# Altium schematic symbol library Resistors (2).SchLib: 59 symbols (part 2 of 2)
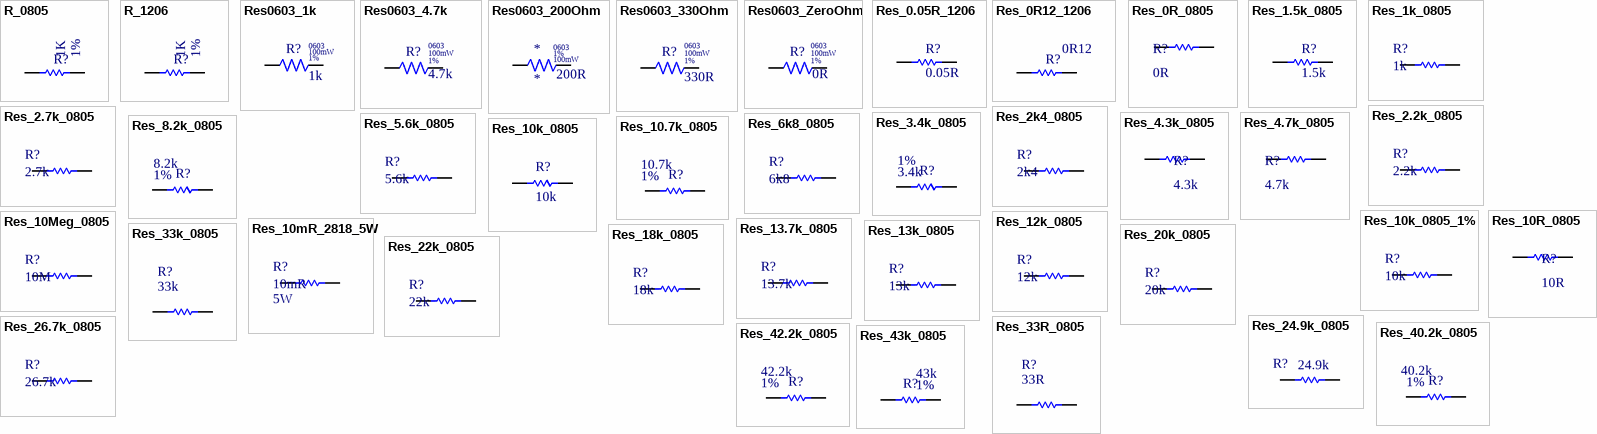
[diagram p2: symbols R_0805 to Res_43k_0805]

## Res_42.2k_0805
designator R?  Tolerance: 1%  Resistance: 42.2k  (hidden comment: *)
RES SMD 42.2K OHM 1% 1/8W 0805; Manufacturer: Vishay; Manufacturer Part Number: CRCW080542K2FKEA; Temperature Coefficient: 100ppm/°C; Max Power Dissipation: 125mW; Voltage Rating: 150V; Supplier 1: Digi-Key; RoHS: Yes; Category: Chip SMD Resistors; Stock 1: 19885; Pricing 1: 1=0.10000, 10=0.06200, 100=0.02540, 1000=0.01142, 2500=0.00991 (USD); Mount: Surface Mount; Case/Package: 0805; Number of Pins: 2; Weight: 0.000194oz; Case Code (Metric): 2012; Case Code (Imperial): 0805; Contact Plating: Tin; Min Operating Temperature: -55°C; Max Operating Temperature: 155°C; Packaging: Tape and Reel; Composition: Thick Film; Number of Terminations: 2; Package Quantity: 10; Power Rating: 125mW; Voltage Rating (DC): 150V; Features: Automotive AEC-Q200; Termination: SMD/SMT; Military Standard: Not; Length: 2mm; Height: 0.02inch; Width: 0.049inch; Depth: 1.25mm; Lead Free: Lead Free; REACH SVHC: Unknown; ComponentLink1URL: https://datasheet.ciiva.com/22674/1825492-22674789.pdf?src-supplier=Element14; ComponentLink1Description: https://datasheet.ciiva.com/22674/1825492-22674789.pdf?src-supplier=Element14; ComponentLink2URL: https://datasheet.ciiva.com/2467/dcrcwe3-2467878.pdf?src-supplier=Digi-Key; ComponentLink2Description: https://datasheet.ciiva.com/2467/dcrcwe3-2467878.pdf?src-supplier=Digi-Key; ComponentLink3URL: https://datasheet.ciiva.com/7671/1697337-7671702.pdf?src-supplier=Element14; ComponentLink3Description: https://datasheet.ciiva.com/7671/1697337-7671702.pdf?src-supplier=Element14; ComponentLink4URL: https://datasheet.ciiva.com/22869/70201119-22869110.pdf?src-supplier=Allied+Electronics; ComponentLink4Description: https://datasheet.ciiva.com/22869/70201119-22869110.pdf?src-supplier=Allied+Electronics; ComponentLink5URL: https://datasheet.ciiva.com/2467/dcrcwe3-2467879.pdf?src-supplier=Digi-Key; ComponentLink5Description: https://datasheet.ciiva.com/2467/dcrcwe3-2467879.pdf?src-supplier=Digi-Key; ComponentLink6URL: https://datasheet.ciiva.com/16213/dcrcwe3-16213911.pdf?src-supplier=Future+Electronics; ComponentLink6Description: https://datasheet.ciiva.com/16213/dcrcwe3-16213911.pdf?src-supplier=Future+Electronics; ComponentLink7URL: https://datasheet.ciiva.com/2467/dcrcwe3-2467880.pdf?src-supplier=Digi-Key; ComponentLink7Description: https://datasheet.ciiva.com/2467/dcrcwe3-2467880.pdf?src-supplier=Digi-Key; ComponentLink8URL: https://datasheet.ciiva.com/16779/70201119-16779240.pdf?src-supplier=Allied+Electronics; ComponentLink8Description: https://datasheet.ciiva.com/16779/70201119-16779240.pdf?src-supplier=Allied+Electronics; ComponentLink9URL: https://datasheet.ciiva.com/9008/dcrcwe3-9008971.pdf?src-supplier=Avnet; ComponentLink9Description: https://datasheet.ciiva.com/9008/dcrcwe3-9008971.pdf?src-supplier=Avnet; ComponentLink10URL: https://datasheet.ciiva.com/5562/dcrcwe3-109170-5562445.pdf?src-supplier=Mouser; ComponentLink10Description: https://datasheet.ciiva.com/5562/dcrcwe3-109170-5562445.pdf?src-supplier=Mouser; Supplier Part Number 1: 541-42.2KCCT-ND
footprint Resistor_0805
pins: 1, 2

## Res_43k_0805
designator R?  Resistance: 43k  Tolerance: 1%  (hidden comment: *)
RES SMD 43K OHM 1% 1/8W 0805; Manufacturer: Vishay; Manufacturer Part Number: CRCW080543K0FKEA; Temperature Coefficient: 100ppm/°C; Power Rating: 125mW; Voltage Rating: 150V; Supplier 1: Digi-Key; RoHS: Yes; Category: Chip SMD Resistors; Stock 1: 3200; Pricing 1: 1=0.10000, 10=0.06200, 100=0.02540, 1000=0.01142, 2500=0.00991 (USD); Case/Package: 0805; Number of Pins: 2; Weight: 0.000194oz; Case Code (Metric): 2012; Case Code (Imperial): 0805; Contact Plating: Tin; Min Operating Temperature: -55°C; Max Operating Temperature: 155°C; Packaging: Tape and Reel; Composition: Thick Film; Package Quantity: 10; Number of Terminations: 2; Max Power Dissipation: 125mW; Voltage Rating (DC): 150V; Termination: SMD/SMT; Features: Automotive AEC-Q200; Military Standard: Not; Length: 2mm; Height: 0.45mm; Width: 0.049inch; Depth: 1.25mm; Radiation Hardening: No; Lead Free: Lead Free; REACH SVHC: Unknown; ComponentLink1URL: https://datasheet.ciiva.com/11809/0900766b80d98b26-11809705.pdf?src-supplier=RSComponents; ComponentLink1Description: https://datasheet.ciiva.com/11809/0900766b80d98b26-11809705.pdf?src-supplier=RSComponents; ComponentLink2URL: https://datasheet.ciiva.com/7671/1697337-7671703.pdf?src-supplier=Element14; ComponentLink2Description: https://datasheet.ciiva.com/7671/1697337-7671703.pdf?src-supplier=Element14; ComponentLink3URL: https://datasheet.ciiva.com/5541/dcrcwe3-109170-5541576.pdf?src-supplier=Mouser; ComponentLink3Description: https://datasheet.ciiva.com/5541/dcrcwe3-109170-5541576.pdf?src-supplier=Mouser; ComponentLink4URL: https://datasheet.ciiva.com/16494/dcrcwe3-16494488.pdf?src-supplier=Future+Electronics; ComponentLink4Description: https://datasheet.ciiva.com/16494/dcrcwe3-16494488.pdf?src-supplier=Future+Electronics; ComponentLink5URL: https://datasheet.ciiva.com/22705/1697337-22705879.pdf?src-supplier=Element14; ComponentLink5Description: https://datasheet.ciiva.com/22705/1697337-22705879.pdf?src-supplier=Element14; ComponentLink6URL: https://datasheet.ciiva.com/2495/dcrcwe3-2495856.pdf?src-supplier=Digi-Key; ComponentLink6Description: https://datasheet.ciiva.com/2495/dcrcwe3-2495856.pdf?src-supplier=Digi-Key; ComponentLink7URL: https://datasheet.ciiva.com/9008/dcrcwe3-9008901.pdf?src-supplier=Avnet; ComponentLink7Description: https://datasheet.ciiva.com/9008/dcrcwe3-9008901.pdf?src-supplier=Avnet; ComponentLink8URL: https://datasheet.ciiva.com/17179/dcrcwe3-17179111.pdf?src-supplier=Avnet+Europe; ComponentLink8Description: https://datasheet.ciiva.com/17179/dcrcwe3-17179111.pdf?src-supplier=Avnet+Europe; ComponentLink9URL: https://datasheet.ciiva.com/26314/fld-crcw-e3-data-en-26314583.pdf?src-supplier=Distrelec; ComponentLink9Description: https://datasheet.ciiva.com/26314/fld-crcw-e3-data-en-26314583.pdf?src-supplier=Distrelec; ComponentLink10URL: https://datasheet.ciiva.com/7671/1697337-7671704.pdf?src-supplier=Element14; ComponentLink10Description: https://datasheet.ciiva.com/7671/1697337-7671704.pdf?src-supplier=Element14; ComponentLink11URL: https://datasheet.ciiva.com/2495/dcrcwe3-2495854.pdf?src-supplier=Digi-Key; ComponentLink11Description: https://datasheet.ciiva.com/2495/dcrcwe3-2495854.pdf?src-supplier=Digi-Key; ComponentLink12URL: https://datasheet.ciiva.com/2495/dcrcwe3-2495855.pdf?src-supplier=Digi-Key; ComponentLink12Description: https://datasheet.ciiva.com/2495/dcrcwe3-2495855.pdf?src-supplier=Digi-Key; Supplier Part Number 1: 541-43.0KCCT-ND
footprint Resistor_0805
pins: 1, 2

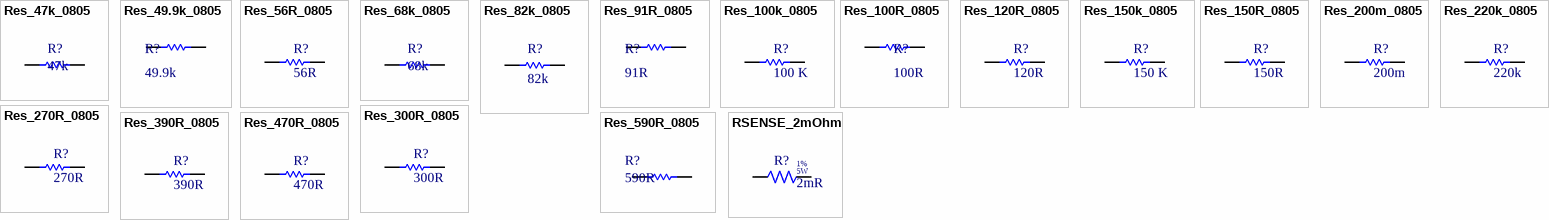
[diagram p1: symbols Res_47k_0805 to RSENSE_2mOhm]

## Res_47k_0805
designator R?, comment 47k
RES SMD 0805 47k 1/8W; Value: LTR10EZPJ473; Supplier 1: Digi-Key; Supplier Part Number 1: 311-47KARCT-ND
footprint Resistor_0805
pins: 1, 2

## Res_49.9k_0805
designator R?, comment 49.9k
RES SMD 0805 49k9 1/4W; Tolerance: 1%; Value: RNCP0805FTD49K9; Supplier 1: Digi-Key; Supplier Part Number 1: RNCP0805FTD49K9CT-ND
footprint Resistor_0805
pins: 1, 2

## Res_56R_0805
designator R?, comment 56R
RES SMD 0805 56R 1/8W; Value: RC0805FR-0756RL; Datasheet: https://www.seielect.com/Catalog/SEI-RMCF_RMCP.pdf; Supplier 1: Digi-Key; Supplier Part Number 1: 311-56.0CRCT-ND; Supplier 2: Mouser; Supplier Part Number 2: 603-RC0805FR-0756RL
footprint Resistor_0805
pins: 1, 2

## Res_68k_0805
designator R?, comment 68k
RES 68k 1/8W SMD 0805; Value: RC0805JR-0768KL; Supplier 1: Digi-Key; Supplier Part Number 1: 311-68KARCT-ND
footprint Resistor_0805
pins: 1, 2

## Res_82k_0805
designator R?, comment 82k
RES SMD 82K OHM 5% 1/8W 0805; Manufacturer: Yageo; Manufacturer Part Number: RC0805JR-0782KL; Resistance: 82kR; Power Rating: 125mW; Voltage Rating: 150V; Temperature Coefficient: 100ppm/°C; Supplier 1: Digi-Key; Stock 1: 130000; Pricing 1: 5000=0.00468, 10000=0.00406, 25000=0.00357, 50000=0.00327, 125000=0.00321 (USD); Case/Package: 0805; Number of Pins: 2; Weight: 0.000194oz; Case Code (Metric): 2012; Case Code (Imperial): 0805; Contact Plating: Tin,Matte; Min Operating Temperature: -55°C; Max Operating Temperature: 155°C; Package Quantity: 1; Tolerance: 5%; Packaging: Tape and Reel; Features: Moisture Resistant; Voltage Rating (DC): 150V; Composition: Thick Film; Number of Terminations: 2; Termination: SMD/SMT; Military Standard: Not; Max Power Dissipation: 125mW; Length: 2mm; Height: 0.024inch; Width: 1.25mm; Depth: 1.25mm; Radiation Hardening: No; Lead Free: Lead Free; REACH SVHC: No SVHC; ComponentLink1URL: https://datasheet.ciiva.com/2456/pyu-r-int-thick-7-2456321.pdf; ComponentLink1Description: https://datasheet.ciiva.com/2456/pyu-r-int-thick-7-2456321.pdf; ComponentLink2URL: https://datasheet.ciiva.com/2456/pyu-r-int-thick-7-2456322.pdf; ComponentLink2Description: https://datasheet.ciiva.com/2456/pyu-r-int-thick-7-2456322.pdf; ComponentLink3URL: https://datasheet.ciiva.com/2456/pyu-r-int-thick-7-2456323.pdf; ComponentLink3Description: https://datasheet.ciiva.com/2456/pyu-r-int-thick-7-2456323.pdf; ComponentLink4URL: https://datasheet.ciiva.com/17330/rc0805-17330682.pdf; ComponentLink4Description: https://datasheet.ciiva.com/17330/rc0805-17330682.pdf; ComponentLink5URL: https://datasheet.ciiva.com/6168/442941-6168333.pdf; ComponentLink5Description: https://datasheet.ciiva.com/6168/442941-6168333.pdf; ComponentLink6URL: https://datasheet.ciiva.com/6168/442941-6168335.pdf; ComponentLink6Description: https://datasheet.ciiva.com/6168/442941-6168335.pdf; Supplier Part Number 1: 311-82KARTR-ND
footprint Resistor_0805
pins: 1, 2

## Res_91R_0805
designator R?, comment 91R
RES 91R 1/8W SMD 0805; Value: RMCF0805JT91R0; Tolerance: ±5%; Datasheet: https://www.seielect.com/Catalog/SEI-RMCF_RMCP.pdf; Supplier 1: Digi-Key; Supplier Part Number 1: RMCF0805JT91R0CT-ND
footprint Resistor_0805
pins: 1, 2

## Res_100k_0805
designator R?, comment 100 K
RES SMD 100K 0.125W 0805; Value: RC0805FR-07220KL; Supplier 1: Digi-Key; Supplier Part Number 1: 311-100KCRCT-ND
footprint Resistor_0805
pins: 1, 2

## Res_100R_0805
designator R?, comment 100R
RES SMD 0805 100R 1/4W; Value: CRS0805-FX-1000ELF; Tolerance: 1%; Supplier 1: Mouser; Supplier Part Number 1: 652-CRS0805FX1000ELF
footprint Resistor_0805
pins: 1, 2

## Res_120R_0805
designator R?, comment 120R
RES SMD 0805 120R 1/8W; Manufacturer 1: Yageo; Manufacturer Part Number 1: RC0805FR-07120RL; Tolerance: 1%; Power Rating: 125mW; Voltage Rating: 150V; Temperature Coefficient: 100ppm/°C; Supplier 1: Digi-Key; Stock 1: 837936; Pricing 1: 1=0,10000, 10=0,04000, 100=0,01620, 1000=0,00726, 2500=0,00630 (USD); RoHS: Yes; Case/Package: 0805; Case Code (Metric): 2012; Case Code (Imperial): 0805; Min Operating Temperature: -55°C; Max Operating Temperature: 155°C; Resistance: 120R; Package Quantity: 1; Packaging: Tape and Reel; Composition: Thick Film; Number of Terminations: 2; Termination: SMD/SMT; Military Standard: Not; Max Power Dissipation: 125mW; Features: Moisture Resistant; Length: 2mm; Height: 0.5mm; Width: 0.049inch; Depth: 1.25mm; REACH SVHC: Unknown; Lead Free: Lead Free; ComponentLink1URL: https://datasheet.ciiva.com/11819/0900766b8106beab-11819786.pdf?src-supplier=RSComponents; ComponentLink1Description: https://datasheet.ciiva.com/11819/0900766b8106beab-11819786.pdf?src-supplier=RSComponents; ComponentLink2URL: https://datasheet.ciiva.com/2491/pyu-r-int-thick-7-2491585.pdf?src-supplier=Digi-Key; ComponentLink2Description: https://datasheet.ciiva.com/2491/pyu-r-int-thick-7-2491585.pdf?src-supplier=Digi-Key; ComponentLink3URL: https://datasheet.ciiva.com/2491/pyu-r-int-thick-7-2491587.pdf?src-supplier=Digi-Key; ComponentLink3Description: https://datasheet.ciiva.com/2491/pyu-r-int-thick-7-2491587.pdf?src-supplier=Digi-Key; ComponentLink4URL: https://datasheet.ciiva.com/12558/rc0805-257173-12558661.pdf?src-supplier=Mouser; ComponentLink4Description: https://datasheet.ciiva.com/12558/rc0805-257173-12558661.pdf?src-supplier=Mouser; ComponentLink5URL: https://datasheet.ciiva.com/7941/444164-7941692.pdf?src-supplier=Element14; ComponentLink5Description: https://datasheet.ciiva.com/7941/444164-7941692.pdf?src-supplier=Element14; ComponentLink6URL: https://datasheet.ciiva.com/16964/rc0805-16964606.pdf?src-supplier=Future+Electronics; ComponentLink6Description: https://datasheet.ciiva.com/16964/rc0805-16964606.pdf?src-supplier=Future+Electronics; ComponentLink7URL: https://datasheet.ciiva.com/2491/pyu-r-int-thick-7-2491586.pdf?src-supplier=Digi-Key; ComponentLink7Description: https://datasheet.ciiva.com/2491/pyu-r-int-thick-7-2491586.pdf?src-supplier=Digi-Key; ComponentLink8URL: https://datasheet.ciiva.com/7941/444164-7941691.pdf?src-supplier=Element14; ComponentLink8Description: https://datasheet.ciiva.com/7941/444164-7941691.pdf?src-supplier=Element14; Category: Resistors; Supplier Part Number 1: 311-120CRCT-ND
footprint Resistor_0805
pins: 1, 2

## Res_150k_0805
designator R?, comment 150 K
RES SMD 150K 0.125W 0805; Value: RC0805FR-07220KL; Supplier 1: Digi-Key; Supplier Part Number 1: P150KCCT-ND
footprint Resistor_0805
pins: 1, 2

## Res_150R_0805
designator R?, comment 150R
RES SMD 0805 150R 1/8W; Value: RMCF0805JT150R; Tolerance: ±5%; Datasheet: https://www.seielect.com/Catalog/SEI-RMCF_RMCP.pdf; Supplier 1: Digi-Key; Supplier Part Number 1: RMCF0805JT150RCT-ND
footprint Resistor_0805
pins: 1, 2

## Res_200m_0805
designator R?, comment 200m
RES SMD 200 MOHM 1% 1/4W 0805; Manufacturer: Vishay Dale; Manufacturer Part Number: WSL0805R2000FEA18; Resistance: 200mR; Power Rating: 250mW; Temperature Coefficient: 75ppm/°C; Supplier 1: Digi-Key; RoHS: Yes; Category: Chip SMD Resistors; Stock 1: 13445; Pricing 1: 1=0.92000, 10=0.80000, 25=0.70320, 50=0.64280, 100=0.55790, 250=0.48512, 500=0.40264, 1000=0.32744 (USD); Mount: Surface Mount; Case/Package: 0805; Case Code (Imperial): 0805; Case Code (Metric): 2012; Contact Plating: Tin,Matte; Min Operating Temperature: -65°C; Max Operating Temperature: 170°C; Tolerance: 1%; Packaging: Tape and Reel; Package Quantity: 1; Termination: SMD/SMT; Composition: Metal Strip,Metal Element; Number of Terminations: 2; Max Power Dissipation: 250mW; Features: Moisture Resistant; Length: 0.08inch; Height: 0.33mm; Width: 1.25mm; Depth: 1.27mm; Radiation Hardening: No; REACH SVHC: Unknown; Lead Free: Lead Free; ComponentLink1URL: https://datasheet.ciiva.com/2483/wslhigh-2483094.pdf?src-supplier=Digi-Key; ComponentLink1Description: https://datasheet.ciiva.com/2483/wslhigh-2483094.pdf?src-supplier=Digi-Key; ComponentLink2URL: https://datasheet.ciiva.com/2483/wslhigh-2483095.pdf?src-supplier=Digi-Key; ComponentLink2Description: https://datasheet.ciiva.com/2483/wslhigh-2483095.pdf?src-supplier=Digi-Key; ComponentLink3URL: https://datasheet.ciiva.com/8960/wslhigh-8960039.pdf?src-supplier=Avnet; ComponentLink3Description: https://datasheet.ciiva.com/8960/wslhigh-8960039.pdf?src-supplier=Avnet; ComponentLink4URL: https://datasheet.ciiva.com/28684/1911169-28684631.pdf?src-supplier=Element14; ComponentLink4Description: https://datasheet.ciiva.com/28684/1911169-28684631.pdf?src-supplier=Element14; ComponentLink5URL: https://datasheet.ciiva.com/2483/wslhigh-2483096.pdf?src-supplier=Digi-Key; ComponentLink5Description: https://datasheet.ciiva.com/2483/wslhigh-2483096.pdf?src-supplier=Digi-Key; ComponentLink6URL: https://datasheet.ciiva.com/17167/wslhigh-17167482.pdf?src-supplier=Avnet+Europe; ComponentLink6Description: https://datasheet.ciiva.com/17167/wslhigh-17167482.pdf?src-supplier=Avnet+Europe; Supplier Part Number 1: WSLB-.20CT-ND
footprint Resistor_0805
pins: 1, 2

## Res_220k_0805
designator R?, comment 220k
RES SMD 220K 1/8W 0805; Value: RC0805FR-07220KL; Supplier 1: Digi-Key; Supplier 2: Mouser; Supplier Part Number 1: 311-220KCRDKR-ND; Supplier Part Number 2: 603-RC0805FR-07220KL
footprint Resistor_0805
pins: 1, 2

## Res_270R_0805
designator R?, comment 270R
RES SMD 0805 270R 1/8W; Value: CRCW0805270RFKEA; Datasheet: https://br.mouser.com/datasheet/2/427/dcrcwe3-109170.pdf; Supplier 1: Digi-Key; Supplier 2: Mouser; Supplier Part Number 1: 541-270CCT-ND; Supplier Part Number 2: 71-CRCW0805-270-E3
footprint Resistor_0805
pins: 1, 2

## Res_300R_0805
designator R?, comment 300R
RES SMD 300 OHM 1% 1/8W 0805; Manufacturer: Vishay; Manufacturer Part Number: CRCW0805300RFKEA; Value: 300; Power Rating: 125mW; Temperature Coefficient: 100ppm/°C; Voltage Rating: 150V; Supplier 1: Digi-Key; Tolerance: 1%; Supplier Part Number 1: 311-390ARDKR-ND; Supplier 2: Digi-Key; RoHS: Yes; Category: Chip SMD Resistors; Stock 2: 24217; Pricing 2: 1=0.10000, 10=0.06200, 100=0.02540, 1000=0.01142, 2500=0.00991 (USD); Mount: Surface Mount; Case/Package: 0805; Weight: 0.000194oz; Case Code (Metric): 2012; Case Code (Imperial): 0805; Contact Plating: Tin; Min Operating Temperature: -55°C; Max Operating Temperature: 155°C; Resistance: 300R; Packaging: Tape and Reel; Composition: Thick Film; Termination: SMD/SMT; Package Quantity: 10; Number of Terminations: 2; Max Power Dissipation: 125mW; Features: Automotive AEC-Q200; Military Standard: Not; Voltage Rating (DC): 150V; Length: 2mm; Height: 0.45mm; Width: 0.049inch; Depth: 1.25mm; Radiation Hardening: No; Lead Free: Lead Free; REACH SVHC: Unknown; ComponentLink1URL: https://datasheet.ciiva.com/11809/0900766b80d98b26-11809601.pdf?src-supplier=RSComponents; ComponentLink1Description: https://datasheet.ciiva.com/11809/0900766b80d98b26-11809601.pdf?src-supplier=RSComponents; ComponentLink2URL: https://datasheet.ciiva.com/2467/dcrcwe3-2467328.pdf?src-supplier=Digi-Key; ComponentLink2Description: https://datasheet.ciiva.com/2467/dcrcwe3-2467328.pdf?src-supplier=Digi-Key; ComponentLink3URL: https://datasheet.ciiva.com/16776/70201119-16776725.pdf?src-supplier=Allied+Electronics; ComponentLink3Description: https://datasheet.ciiva.com/16776/70201119-16776725.pdf?src-supplier=Allied+Electronics; ComponentLink4URL: https://datasheet.ciiva.com/48524/dcrcwe3-48524982.pdf?src-supplier=Avnet; ComponentLink4Description: https://datasheet.ciiva.com/48524/dcrcwe3-48524982.pdf?src-supplier=Avnet; ComponentLink5URL: https://datasheet.ciiva.com/16430/dcrcwe3-16430295.pdf?src-supplier=Future+Electronics; ComponentLink5Description: https://datasheet.ciiva.com/16430/dcrcwe3-16430295.pdf?src-supplier=Future+Electronics; ComponentLink6URL: https://datasheet.ciiva.com/7690/1697337-7690763.pdf?src-supplier=Element14; ComponentLink6Description: https://datasheet.ciiva.com/7690/1697337-7690763.pdf?src-supplier=Element14; ComponentLink7URL: https://datasheet.ciiva.com/7725/125364-7725916.pdf?src-supplier=Element14; ComponentLink7Description: https://datasheet.ciiva.com/7725/125364-7725916.pdf?src-supplier=Element14; ComponentLink8URL: https://datasheet.ciiva.com/7690/1697337-7690764.pdf?src-supplier=Element14; ComponentLink8Description: https://datasheet.ciiva.com/7690/1697337-7690764.pdf?src-supplier=Element14; ComponentLink9URL: https://datasheet.ciiva.com/5546/dcrcwe3-109170-5546013.pdf?src-supplier=Mouser; ComponentLink9Description: https://datasheet.ciiva.com/5546/dcrcwe3-109170-5546013.pdf?src-supplier=Mouser; ComponentLink10URL: https://datasheet.ciiva.com/22869/70201119-22869293.pdf?src-supplier=Allied+Electronics; ComponentLink10Description: https://datasheet.ciiva.com/22869/70201119-22869293.pdf?src-supplier=Allied+Electronics; ComponentLink11URL: https://datasheet.ciiva.com/2467/dcrcwe3-2467326.pdf?src-supplier=Digi-Key; ComponentLink11Description: https://datasheet.ciiva.com/2467/dcrcwe3-2467326.pdf?src-supplier=Digi-Key; ComponentLink12URL: https://datasheet.ciiva.com/17164/dcrcwe3-17164222.pdf?src-supplier=Avnet+Europe; ComponentLink12Description: https://datasheet.ciiva.com/17164/dcrcwe3-17164222.pdf?src-supplier=Avnet+Europe; ComponentLink13URL: https://datasheet.ciiva.com/2467/dcrcwe3-2467327.pdf?src-supplier=Digi-Key; ComponentLink13Description: https://datasheet.ciiva.com/2467/dcrcwe3-2467327.pdf?src-supplier=Digi-Key; ComponentLink14URL: https://datasheet.ciiva.com/26317/fld-crcw-e3-data-en-26317343.pdf?src-supplier=Distrelec; ComponentLink14Description: https://datasheet.ciiva.com/26317/fld-crcw-e3-data-en-26317343.pdf?src-supplier=Distrelec; Supplier Part Number 2: 541-300CCT-ND
footprint Resistor_0805
pins: 1, 2

## Res_390R_0805
designator R?, comment 390R
RES SMD 0805 390R 5% 1/8W; Tolerance: 1%; Value: 1K; Supplier 1: Digi-Key; Supplier Part Number 1: 311-390ARDKR-ND
footprint Resistor_0805
pins: 1, 2

## Res_470R_0805
designator R?, comment 470R
RES 470R 1/8W SMD 0805; Value: CR0805-FX-4700GLF; Datasheet: https://br.mouser.com/datasheet/2/54/hpreztr-777398.pdf; Supplier 1: Mouser; Supplier 2: Digi-Key; Supplier Part Number 1: 652-CR0805-FX4700GLF; Supplier Part Number 2: CR0805-FX-4700GLFCT-ND
footprint Resistor_0805
pins: 1, 2

## Res_590R_0805
designator R?, comment 590R
Resistor SMD 0805 590R 1/8W; Supplier 1: Digi-Key; Supplier Part Number 1: 311-590CRDKR-ND
footprint Resistor_0805
pins: 1, 2

## RSENSE_2mOhm
designator R?  Tolerance: 1%  Resistance: 2mR  Max Power Dissipation: 5W  (hidden comment: *)
Manufacturer 1: Vishay Dale; Manufacturer Part Number 1: WSLF25122L000FEA; Temperature Coefficient: 70ppm/°C; Supplier 1: Digi-Key; Stock 1: 4000; Pricing 1: 1=0.78000, 10=0.64700, 25=0.55440, 50=0.49900, 100=0.43430, 250=0.38808, 500=0.31416, 1000=0.25410 (USD); RoHS: Yes; Case/Package: 2512; Case Code (Metric): 6432; Case Code (Imperial): 2512; Min Operating Temperature: -65°C; Max Operating Temperature: 170°C; Packaging: Tape and Reel; Composition: Metal Element; Number of Terminations: 2; Features: Moisture Resistant; Length: 0.25inch; Height: 0.024inch; Width: 0.125inch; Lead Free: Lead Free; ComponentLink1URL: http://www.farnell.com/datasheets/2574841.pdf?src-supplier=Farnell; ComponentLink1Description: http://www.farnell.com/datasheets/2574841.pdf?src-supplier=Farnell; ComponentLink2URL: http://www.vishay.com/docs/30193/wslf.pdf?src-supplier=Digi-Key; ComponentLink2Description: http://www.vishay.com/docs/30193/wslf.pdf?src-supplier=Digi-Key; Supplier Part Number 1: 541-3126-6-ND
footprint RSENSE_WSLF (Part specific foot print for 2mOhm current sense resistor)
pins: 1, 2